# EAGLE library part DUAL_15MM_SHAFT (library poti_RK097G)
16mm Potentiometer two level Source: http://www.alphapotentiometers.net/html/16mm_pot_2.html
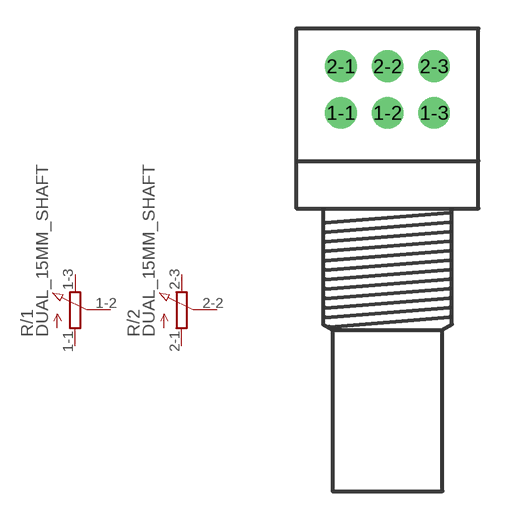
[diagram p0: symbol with the pads of RK097G; footprint RK097G]

Designator prefix R; gates /1=POT_EU- /2=POT_EU-

## DUAL_15MM_SHAFT  [RK097G]
1-1  /1:A  pas
1-2  /1:S  pas
1-3  /1:E  pas
2-1  /2:A  pas
2-2  /2:S  pas
2-3  /2:E  pas

## Footprint RK097G (pad centres in mm)
16mm Potentiometer two level Source: http://www.alphapotentiometers.net/html/16mm_pot_2.html
drill 0.8 pad 1.676: 1-1 -2.46,-1.27; 1-2 0,-1.27; 1-3 2.46,-1.27; 2-1 -2.46,1.19; 2-2 0,1.19; 2-3 2.46,1.19